# Altium schematic symbol library 3mm_InfraredDiode.SchLib: 4 symbols
Pins are listed as number, name and electrical type; pins without a type are passive.

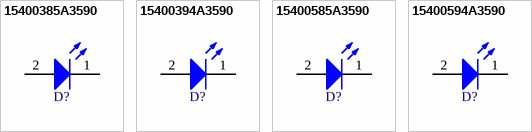
[diagram p0: symbols 15400385A3590 to 15400594A3590]

## 15400385A3590
designator D?, comment Infrared, 1.5V, 35°  (value not drawn)
WL-TIRW THT Infrared Round Waterclear, D3.9 x H5.3mm, 60mW/sr, Infrared, 1.5V, 35°; Manufacturer Part Number: 15400385A3590; Manufacturer: Wurth Elektronik; Centroid Wavelength: 845nm; Chip Technology: AlGaAs; Peak Wavelength: 850nm; Category: Infrared LEDs; Match Code: WL-TIRW; ComponentLink1Description: Website Link; ComponentLink1URL: https://www.we-online.com/redexpert/article/15400385A3590?ad; ComponentLink2Description: Datasheet Link; ComponentLink2URL: https://www.we-online.com/redexpert/spec/15400385A3590?ad; Mount: Through Hole; Operating Temperature Max: 85°C; Operating Temperature Min: -40°C; Packaging: Bulk; Height: 5.3mm; Diameter: 3.9mm; Emitting Color: Infrared; Forward Voltage: 1.5V; Radiant Intensity: 60mW/sr; Viewing Angle: 35°
footprint WL-TIRW_D3.9H5.3
simulation model 3mm_15400385A3590
pins: 1 K, 2 A

## 15400394A3590
designator D?, comment Infrared, 1.3V, 35°  (value not drawn)
WL-TIRW THT Infrared Round Waterclear, D3.9 x H5.3mm, 30mW/sr, Infrared, 1.3V, 35°; Manufacturer Part Number: 15400394A3590; Manufacturer: Wurth Elektronik; Centroid Wavelength: 940nm; Chip Technology: AlGaAs; Category: Infrared LEDs; Match Code: WL-TIRW; ComponentLink1Description: Website Link; ComponentLink1URL: https://www.we-online.com/redexpert/article/15400394A3590?ad; ComponentLink2Description: Datasheet Link; ComponentLink2URL: https://www.we-online.com/redexpert/spec/15400394A3590?ad; Mount: Through Hole; Operating Temperature Max: 85°C; Operating Temperature Min: -40°C; Packaging: Bulk; Height: 5.3mm; Diameter: 3.9mm; Emitting Color: Infrared; Forward Voltage: 1.3V; Peak Wavelength: 940nm; Radiant Intensity: 30mW/sr; Viewing Angle: 35°
footprint WL-TIRW_D3.9H5.3
simulation model 3mm_15400394A3590
pins: 1 K, 2 A

## 15400585A3590
designator D?, comment Infrared, 1.5V, 35°  (value not drawn)
WL-TIRW THT Infrared Round Waterclear, D5.8 x H8.6mm, 85mW/sr, Infrared, 1.5V, 35°; Manufacturer Part Number: 15400585A3590; Manufacturer: Wurth Elektronik; Centroid Wavelength: 845nm; Chip Technology: AlGaAs; Peak Wavelength: 850nm; Category: Infrared LEDs; Match Code: WL-TIRW; ComponentLink1Description: Website Link; ComponentLink1URL: https://www.we-online.com/redexpert/article/15400585A3590?ad; ComponentLink2Description: Datasheet Link; ComponentLink2URL: https://www.we-online.com/redexpert/spec/15400585A3590?ad; Mount: Through Hole; Operating Temperature Max: 85°C; Operating Temperature Min: -40°C; Packaging: Bulk; Height: 8.6mm; Diameter: 5.8mm; Emitting Color: Infrared; Forward Voltage: 1.5V; Radiant Intensity: 85mW/sr; Viewing Angle: 35°
footprint WL-TIRW_D5.8H8.6
simulation model 5mm_15400585A3590
pins: 1 K, 2 A

## 15400594A3590
designator D?, comment Infrared, 1.3V, 35°  (value not drawn)
WL-TIRW THT Infrared Round Waterclear, D5.8 x H8.6mm, 75mW/sr, Infrared, 1.3V, 35°; Manufacturer Part Number: 15400594A3590; Manufacturer: Wurth Elektronik; Centroid Wavelength: 940nm; Chip Technology: AlGaAs; Category: Infrared LEDs; Match Code: WL-TIRW; ComponentLink1Description: Website Link; ComponentLink1URL: https://www.we-online.com/redexpert/article/15400594A3590?ad; ComponentLink2Description: Datasheet Link; ComponentLink2URL: https://www.we-online.com/redexpert/spec/15400594A3590?ad; Mount: Through Hole; Operating Temperature Max: 85°C; Operating Temperature Min: -40°C; Packaging: Bulk; Height: 8.6mm; Diameter: 5.8mm; Emitting Color: Infrared; Forward Voltage: 1.3V; Peak Wavelength: 940nm; Radiant Intensity: 75mW/sr; Viewing Angle: 35°
footprint WL-TIRW_D5.8H8.6
simulation model 5mm_15400594A3590
pins: 1 K, 2 A